# Altium footprint library Terminal Block.PcbLib: 3 footprints
Each footprint in its own frame and in the unit in brackets; x right, y up, seen from the top. Pads: shape width x height; smd on the part's side, far side on the other; paste and mask are expansions set on the pad; w line width, h text height; cw(c..) or ccw(c..) is an arc to the next point about the centre after c.
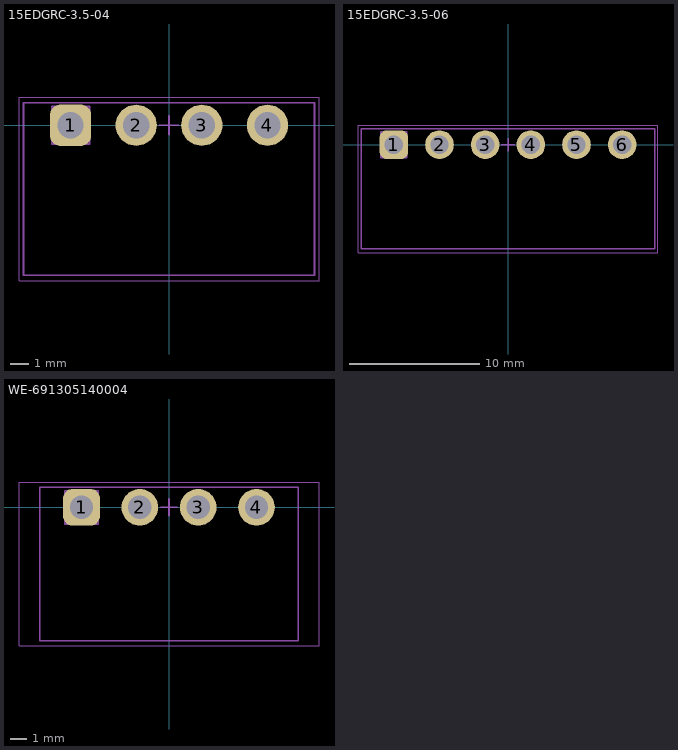
[diagram p0: the footprints below, top view; thin cyan lines are the x and y axes]

## 15EDGRC-3.5-04 [mm] "Terminal Block Header, 4 Position, Male Pins, Shrouded (4 Side), 3.50mm, 90 degrees Right Angle Through Hole"
height 7
pads (4):
  rrect50% 2.2x2.2 hole 1.4: 1(-5.25,0)
  round 2.2 hole 1.4: 2(-1.75,0) 3(1.75,0) 4(5.25,0)
Mechanical 13:
  lines w0.1: -7.75,-8 7.75,-8 7.75,1.2 -7.75,1.2 -7.75,-8
Mechanical 14:
  circle w0.1: c5.25,0 r1
  circle w0.1: c1.75,0 r1
  circle w0.1: c-1.75,0 r1
  lines w0.1: -6.25,-1 -6.25,1 -4.25,1 -4.25,-1 -6.25,-1
Mechanical 15:
  lines w0.05: -8,-8.3 8,-8.3 8,1.5 -8,1.5 -8,-8.3
  lines w0.1: -0.5,0 0.5,0 ; 0,-0.5 0,0.5
3D body: height 0.5, standoff -0.5, extent 5.004,-17 6,-10
3D body: height 0.5, standoff -0.5, extent 1.254,-17 2.25,-10
3D body: height 0.5, standoff -0.5, extent -2.246,-17 -1.25,-10
3D body: height 0.5, standoff -0.5, extent -5.746,-17 -4.75,-10
3D body: height 8, standoff 7, extent 4.012,-12.747 7,-9.753
3D body: height 8, standoff 7, extent 0.262,-12.747 3.25,-9.753
3D body: height 8, standoff 7, extent -3.238,-12.747 -0.25,-9.753
3D body: height 8, standoff 7, extent -6.738,-12.747 -3.75,-9.753
3D body: height 5, standoff 4, extent -7.75,-8 -6,1.2
3D body: height 5, standoff 4, extent 6,-8 7.75,1.2
3D body: height 5, standoff 4, extent 2.5,-8 4.5,1.2
3D body: height 5, standoff 4, extent -1,-8 1,1.2
3D body: height 5, standoff 4, extent -4.5,-8 -2.5,1.2
3D body: height 7, standoff 0, extent -7.75,0.75 7.75,1.2
3D body: height 7, standoff 0, extent -7.75,-8 -6.75,1.2
3D body: height 7, standoff 0, extent 6.75,-8 7.75,1.2
3D body: height 7, standoff 0, extent 3.25,-8 3.75,1.2
3D body: height 7, standoff 0, extent -0.25,-8 0.25,1.2
3D body: height 7, standoff 0, extent -3.75,-8 -3.25,1.2
3D body: height 1, standoff 0, extent -7.75,-8 7.75,1.2
3D body: height 3.2, standoff -3.5, extent 4.85,-0.4 5.65,0.4
3D body: height 3.2, standoff -3.5, extent 1.35,-0.4 2.15,0.4
3D body: height 3.2, standoff -3.5, extent -2.15,-0.4 -1.35,0.4
3D body: height 3.2, standoff -3.5, extent -5.65,-0.4 -4.85,0.4
3D body: height 7, standoff 6, extent -7.75,-8 7.75,1.2
3D body: height 3.2, standoff 2.4, extent -5.65,-7 -4.85,0.4
3D body: height 3.2, standoff 2.4, extent -2.15,-7 -1.35,0.4
3D body: height 3.2, standoff 2.4, extent 1.35,-7 2.15,0.4
3D body: height 3.2, standoff 2.4, extent 4.85,-7 5.65,0.4
3D body: height 8, standoff -3.5, extent -7.75,-17 7.75,-8

## 15EDGRC-3.5-06 [mm] "Terminal Block Header, 6 Position, Male Pins, Shrouded (4 Side), 3.50mm, 90 degrees Right Angle Through Hole"
height 7
pads (6):
  rrect50% 2.2x2.2 hole 1.4: 1(-8.75,0)
  round 2.2 hole 1.4: 2(-5.25,0) 3(-1.75,0) 4(1.75,0) 5(5.25,0) 6(8.75,0)
Mechanical 13:
  lines w0.1: -11.25,-8 -11.25,1.2 11.25,1.2 11.25,-8 -11.25,-8
Mechanical 14:
  circle w0.1: c8.75,0 r1
  circle w0.1: c5.25,0 r1
  circle w0.1: c1.75,0 r1
  circle w0.1: c-1.75,0 r1
  circle w0.1: c-5.25,0 r1
  lines w0.1: -9.75,-1 -9.75,1 -7.75,1 -7.75,-1 -9.75,-1
Mechanical 15:
  lines w0.05: -11.5,-8.3 -11.5,1.5 11.5,1.5 11.5,-8.3 -11.5,-8.3
  lines w0.1: -0.5,0 0.5,0 ; 0,-0.5 0,0.5
3D body: height 5, standoff 4, extent 6,-8 8,1.2
3D body: height 5, standoff 4, extent -8,-8 -6,1.2
3D body: height 3.2, standoff 2.4, extent -9.15,-7 -8.35,0.4
3D body: height 3.2, standoff 2.4, extent 8.35,-7 9.15,0.4
3D body: height 3.2, standoff -3.5, extent 8.35,-0.4 9.15,0.4
3D body: height 3.2, standoff -3.5, extent -9.15,-0.4 -8.35,0.4
3D body: height 7, standoff 0, extent 6.75,-8 7.25,1.2
3D body: height 7, standoff 0, extent -7.25,-8 -6.75,1.2
3D body: height 8, standoff -3.5, extent -11.25,-17 11.25,-8
3D body: height 3.2, standoff 2.4, extent 4.85,-7 5.65,0.4
3D body: height 3.2, standoff 2.4, extent 1.35,-7 2.15,0.4
3D body: height 3.2, standoff 2.4, extent -2.15,-7 -1.35,0.4
3D body: height 3.2, standoff 2.4, extent -5.65,-7 -4.85,0.4
3D body: height 7, standoff 6, extent -11.25,-8 11.25,1.2
3D body: height 3.2, standoff -3.5, extent -5.65,-0.4 -4.85,0.4
3D body: height 3.2, standoff -3.5, extent -2.15,-0.4 -1.35,0.4
3D body: height 3.2, standoff -3.5, extent 1.35,-0.4 2.15,0.4
3D body: height 3.2, standoff -3.5, extent 4.85,-0.4 5.65,0.4
3D body: height 1, standoff 0, extent -11.25,-8 11.25,1.2
3D body: height 7, standoff 0, extent -3.75,-8 -3.25,1.2
3D body: height 7, standoff 0, extent -0.25,-8 0.25,1.2
3D body: height 7, standoff 0, extent 3.25,-8 3.75,1.2
3D body: height 7, standoff 0, extent 10.25,-8 11.25,1.2
3D body: height 7, standoff 0, extent -11.25,-8 -10.25,1.2
3D body: height 7, standoff 0, extent -11.25,0.75 11.25,1.2
3D body: height 5, standoff 4, extent -4.5,-8 -2.5,1.2
3D body: height 5, standoff 4, extent -1,-8 1,1.2
3D body: height 5, standoff 4, extent 2.5,-8 4.5,1.2
3D body: height 5, standoff 4, extent 9.5,-8 11.25,1.2
3D body: height 5, standoff 4, extent -11.25,-8 -9.5,1.2
3D body: height 8, standoff 7, extent -6.738,-12.747 -3.75,-9.753
3D body: height 8, standoff 7, extent -3.238,-12.747 -0.25,-9.753
3D body: height 8, standoff 7, extent 0.262,-12.747 3.25,-9.753
3D body: height 8, standoff 7, extent 4.012,-12.747 7,-9.753
3D body: height 0.5, standoff -0.5, extent -5.746,-17 -4.75,-10
3D body: height 0.5, standoff -0.5, extent -2.246,-17 -1.25,-10
3D body: height 0.5, standoff -0.5, extent 1.254,-17 2.25,-10
3D body: height 0.5, standoff -0.5, extent 5.004,-17 6,-10
3D body: height 8, standoff 7, extent -10.238,-12.747 -7.25,-9.753
3D body: height 8, standoff 7, extent 7.762,-12.747 10.75,-9.753
3D body: height 0.5, standoff -0.5, extent -9.246,-17 -8.25,-10
3D body: height 0.5, standoff -0.5, extent 8.754,-17 9.75,-10

## WE-691305140004 [mm] "Terminal Block Header, 4 Position, Male Pins, Shrouded (4 Side), 3.50mm, 90 degrees Right Angle Through Hole"
height 7.2
pads (4):
  rrect50% 2.2x2.2 hole 1.4: 1(-5.25,0)
  round 2.2 hole 1.4: 2(-1.75,0) 3(1.75,0) 4(5.25,0)
Mechanical 13:
  lines w0.1: -7.75,-8 -7.75,1.2 7.75,1.2 7.75,-8 -7.75,-8
Mechanical 14:
  circle w0.1: c-1.75,0 r1
  circle w0.1: c1.75,0 r1
  circle w0.1: c5.25,0 r1
  lines w0.1: -6.25,-1 -4.25,-1 -4.25,1 -6.25,1 -6.25,-1
Mechanical 15:
  lines w0.05: -9,-8.3 -9,1.5 9,1.5 9,-8.3 -9,-8.3
  lines w0.1: -0.5,0 0.5,0 ; 0,-0.5 0,0.5
3D body: height 7, standoff 0, extent -13,-22 -8,-3
3D body: height 7, standoff 0, extent 8,-22 13,-3
3D body: height 7, standoff 0, extent -7.75,-23 7.75,-8
3D body: height 3.2, standoff 2.4, extent 7.75,-6.25 8.75,-5.25
3D body: height 3.2, standoff 2.4, extent -8.75,-6.25 -7.75,-5.25
3D body: height 3.2, standoff 2.4, extent 4.85,-7 5.65,0.4
3D body: height 3.2, standoff 2.4, extent 1.35,-7 2.15,0.4
3D body: height 3.2, standoff 2.4, extent -2.15,-7 -1.35,0.4
3D body: height 3.2, standoff 2.4, extent -5.65,-7 -4.85,0.4
3D body: height 7, standoff 6, extent -7.75,-8 7.75,1.2
3D body: height 3.2, standoff -3.5, extent -5.65,-0.4 -4.85,0.4
3D body: height 3.2, standoff -3.5, extent -2.15,-0.4 -1.35,0.4
3D body: height 3.2, standoff -3.5, extent 1.35,-0.4 2.15,0.4
3D body: height 3.2, standoff -3.5, extent 4.85,-0.4 5.65,0.4
3D body: height 1, standoff 0, extent -7.75,-8 7.75,1.2
3D body: height 7, standoff 0, extent -3.75,-8 -3.25,1.2
3D body: height 7, standoff 0, extent -0.25,-8 0.25,1.2
3D body: height 7, standoff 0, extent 3.25,-8 3.75,1.2
3D body: height 7, standoff 0, extent 6.75,-8 7.75,1.2
3D body: height 7, standoff 0, extent -7.75,-8 -6.75,1.2
3D body: height 7, standoff 0, extent -7.75,0.75 7.75,1.2
3D body: height 5, standoff 4, extent -4.5,-8 -2.5,1.2
3D body: height 5, standoff 4, extent -1,-8 1,1.2
3D body: height 5, standoff 4, extent 2.5,-8 4.5,1.2
3D body: height 5, standoff 4, extent 6,-8 7.75,1.2
3D body: height 5, standoff 4, extent -7.75,-8 -6,1.2
3D body: height 3.8, standoff 1.8, extent -8.75,-5.25 -7.75,-4.75
3D body: height 3.8, standoff 1.8, extent 7.75,-5.25 8.75,-4.75
3D body: height 7.2, standoff 7, extent -7.75,-4.25 7.75,-3.75